# EAGLE library part ATMEGA328P-AU (library custom)
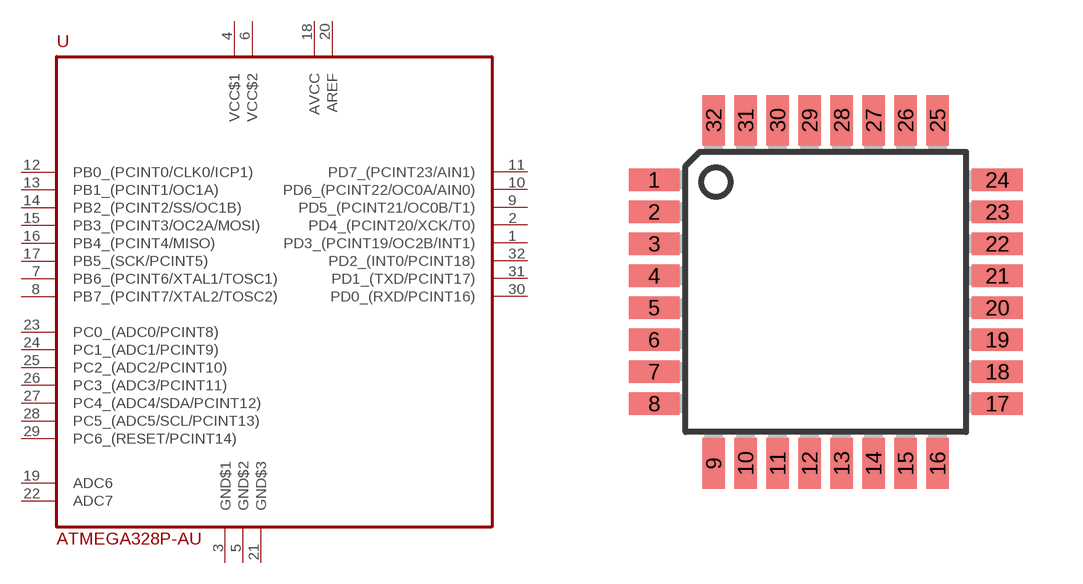
[diagram p0: symbol with the pads of TQFP32-08; footprint TQFP32-08]

Designator prefix -

## ATMEGA328P-AU  [TQFP32-08]
1  PD3_(PCINT19/OC2B/INT1)
2  PD4_(PCINT20/XCK/T0)
3  GND$1
4  VCC$1
5  GND$2
6  VCC$2
7  PB6_(PCINT6/XTAL1/TOSC1)
8  PB7_(PCINT7/XTAL2/TOSC2)
9  PD5_(PCINT21/OC0B/T1)
10  PD6_(PCINT22/OC0A/AIN0)
11  PD7_(PCINT23/AIN1)
12  PB0_(PCINT0/CLK0/ICP1)
13  PB1_(PCINT1/OC1A)
14  PB2_(PCINT2/SS/OC1B)
15  PB3_(PCINT3/OC2A/MOSI)
16  PB4_(PCINT4/MISO)
17  PB5_(SCK/PCINT5)
18  AVCC
19  ADC6
20  AREF
21  GND$3
22  ADC7
23  PC0_(ADC0/PCINT8)
24  PC1_(ADC1/PCINT9)
25  PC2_(ADC2/PCINT10)
26  PC3_(ADC3/PCINT11)
27  PC4_(ADC4/SDA/PCINT12)
28  PC5_(ADC5/SCL/PCINT13)
29  PC6_(RESET/PCINT14)
30  PD0_(RXD/PCINT16)
31  PD1_(TXD/PCINT17)
32  PD2_(INT0/PCINT18)

## Footprint TQFP32-08 (pad centres in mm)
Thin Plasic Quad Flat Package Grid 0.8 mm
smd 1.27 x 0.559: 1 -4.293,2.8; 2 -4.293,2; 3 -4.293,1.2; 4 -4.293,0.4; 5 -4.293,-0.4; 6 -4.293,-1.2; 7 -4.293,-2; 8 -4.293,-2.8; 17 4.293,-2.8; 18 4.293,-2; 19 4.293,-1.2; 20 4.293,-0.4; 21 4.293,0.4; 22 4.293,1.2; 23 4.293,2; 24 4.293,2.8
smd 0.559 x 1.27: 9 -2.8,-4.293; 10 -2,-4.293; 11 -1.2,-4.293; 12 -0.4,-4.293; 13 0.4,-4.293; 14 1.2,-4.293; 15 2,-4.293; 16 2.8,-4.293; 25 2.8,4.293; 26 2,4.293; 27 1.2,4.293; 28 0.4,4.293; 29 -0.4,4.293; 30 -1.2,4.293; 31 -2,4.293; 32 -2.8,4.293